# EAGLE library part BL3208 (library integrated circuits)
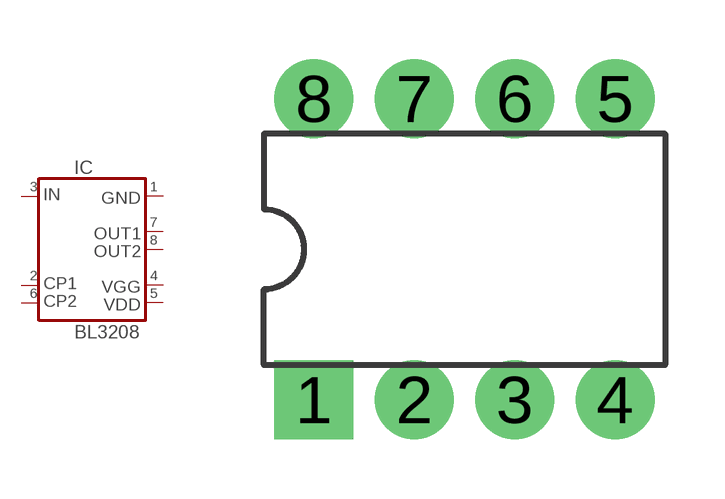
[diagram p3: symbol with the pads of DIL08; footprint DIL08]

Designator prefix IC

## BL3208  [DIL08]
1  1
2  2
3  3
4  4
5  5
6  6
7  7
8  8

## Footprint DIL08 (pad centres in mm)
Dual In Line Package
drill 1 pad 2 square: 1 -3.81,-3.81
drill 1 pad 2: 2 -1.27,-3.81; 3 1.27,-3.81; 4 3.81,-3.81; 5 3.81,3.81; 6 1.27,3.81; 7 -1.27,3.81; 8 -3.81,3.81